# EAGLE library part M25PE20-V (library memory-numonyx)
FLASH MEMORY 1 and 2 Mbit, page-erasable serial Flash memories with byte alterability, 75 MHz SPI bus, standard pinout
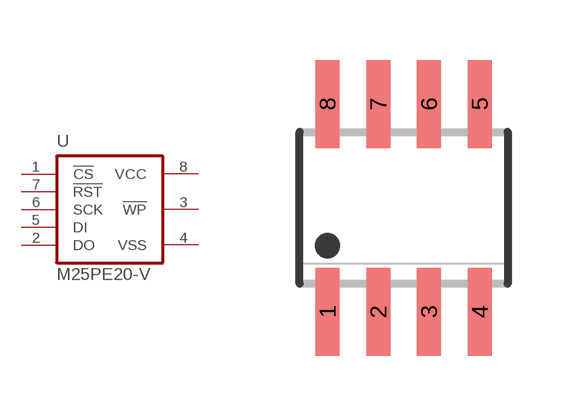
[diagram p1: symbol with the pads of SO08; footprint SO08]

Designator prefix U

## M25PE20-VMN  [SO08]
1  !CS!  in
2  DO
3  !WP!  in
4  VSS  pwr
5  DI  in
6  SCK  in
7  !RST!  in
8  VCC  pwr

## Footprint SO08 (pad centres in mm)
SMALL OUTLINE INTEGRATED CIRCUIT body 3.9 mm/JEDEC MS-012AA
smd 0.6 x 2.2: 1 -1.905,-2.6; 2 -0.635,-2.6; 3 0.635,-2.6; 4 1.905,-2.6; 5 1.905,2.6; 6 0.635,2.6; 7 -0.635,2.6; 8 -1.905,2.6